# EAGLE library part 7_SEGMENT (library Bauteile)
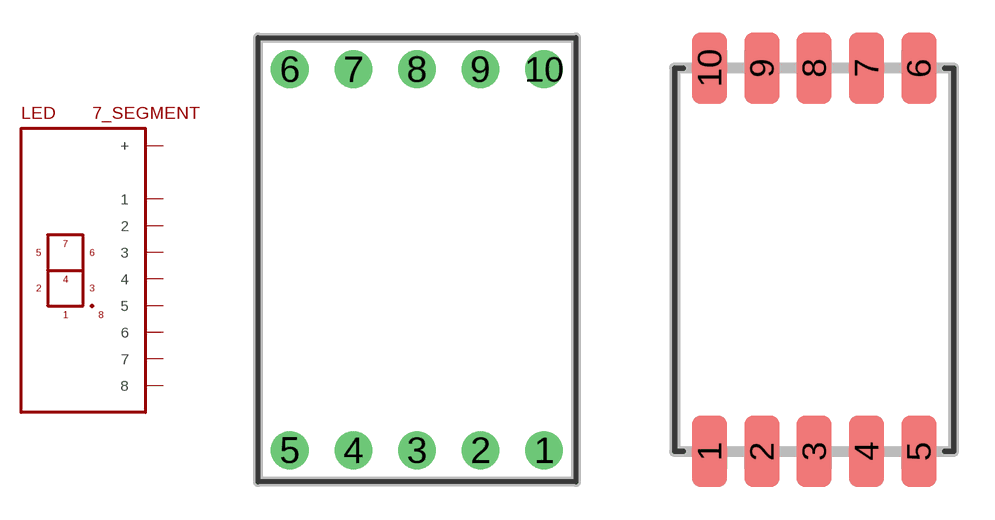
[diagram p9: symbol with the pads of 7_SEGMENT_THT; footprints 7_SEGMENT_THT, 7_SEGMENT_SMD]

Designator prefix LED

## 7_SEGMENT(THT)  [7_SEGMENT_THT]
1  1
2  2
3  +
4  3
5  4
6  5
7  6
8  +
9  7
10  8

## 7_SEGMENT(SMD)  [7_SEGMENT_SMD]
1  2
2  1
3  +
4  3
5  8
6  6
7  7
8  +
9  5
10  4

## Footprint 7_SEGMENT_THT (pad centres in mm)
drill 1: 1 11.43,1.27; 2 8.89,1.27; 3 6.35,1.27; 4 3.81,1.27; 5 1.27,1.27; 6 1.27,16.51; 7 3.81,16.51; 8 6.35,16.51; 9 8.89,16.51; 10 11.43,16.51

## Footprint 7_SEGMENT_SMD (pad centres in mm)
smd 1.27 x 2.6: 1 -3.81,-6.985; 2 -1.905,-6.985; 3 0,-6.985; 4 1.905,-6.985; 5 3.81,-6.985; 6 3.81,6.985; 7 1.905,6.985; 8 0,6.985; 9 -1.905,6.985; 10 -3.81,6.985